# EAGLE library part CNKLS_RJ45_SMT (library cnkls_parts)
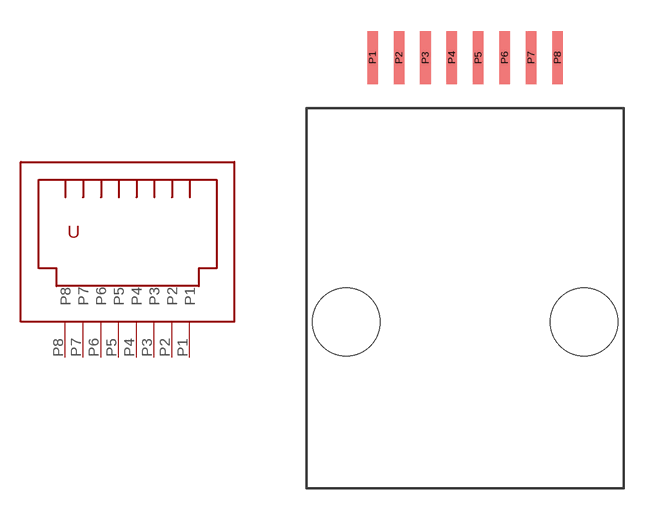
[diagram p0: symbol with the pads of CNKLS_SMT_RJ45_JACK; footprint CNKLS_SMT_RJ45_JACK]

Designator prefix -

## CNKLS_RJ45_SMT  [CNKLS_SMT_RJ45_JACK]
P1  P1
P2  P2
P3  P3
P4  P4
P5  P5
P6  P6
P7  P7
P8  P8

## Footprint CNKLS_SMT_RJ45_JACK (pad centres in mm)
smd 0.508 x 2.54: P1 -4.445,0; P2 -3.175,0; P3 -1.905,0; P4 -0.635,0; P5 0.635,0; P6 1.905,0; P7 3.175,0; P8 4.445,0
hole 3.25 at -5.715,-12.7
hole 3.25 at 5.715,-12.7